# Altium footprint library DG128-7.5-03P-14.PcbLib: 1 footprints
Each footprint in its own frame and in the unit in brackets; x right, y up, seen from the top. Pads: shape width x height; smd on the part's side, far side on the other; paste and mask are expansions set on the pad; w line width, h text height; cw(c..) or ccw(c..) is an arc to the next point about the centre after c.
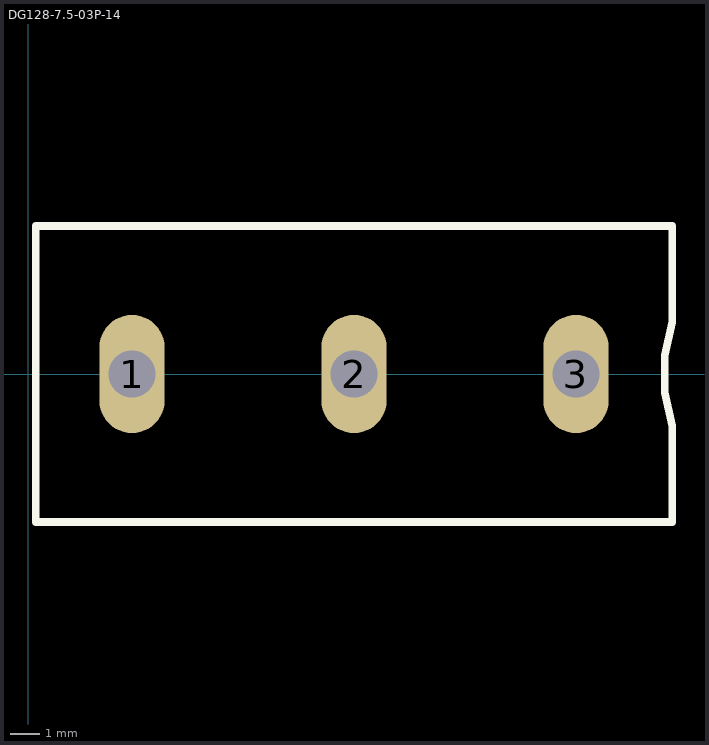
[diagram p0: the footprint, top view; thin cyan lines are the x and y axes]

## DG128-7.5-03P-14 [mm]
pads (3):
  oval 2.2x4 hole 1.6: 1(3.5,0) 2(11,0) 3(18.5,0)
Top Overlay:
  lines w0.254: 0.25,-5 0.25,0.25 0.25,5 21.75,5 21.75,4.125 21.75,2.875 21.75,1.75 21.5,0.625 21.5,-0.625 21.75,-1.75 21.75,-5 0.25,-5
3D body "degson 3pin v1.step": height 13.96, standoff -3.13, extent -0.25,-5.017 22.25,5